# EAGLE library part CAT93C56LI-G (library on-semiconductor-01)
CMOS EEPROM
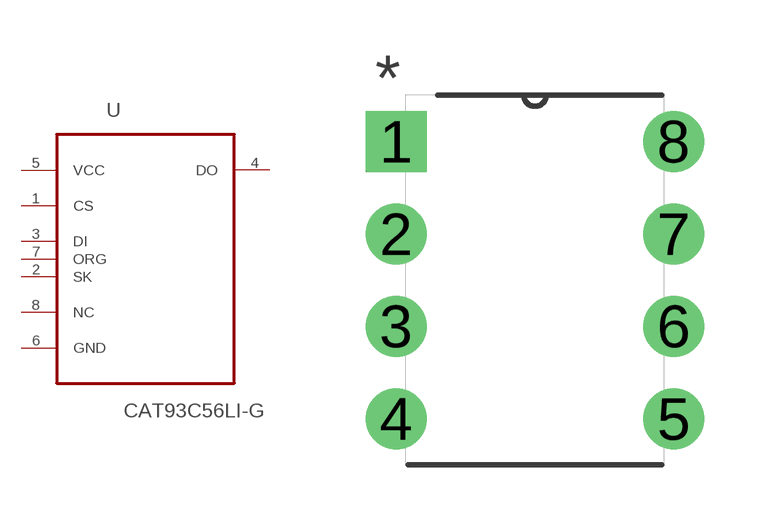
[diagram p18: symbol with the pads of DIP254P762X533-8; footprint DIP254P762X533-8]

Designator prefix U

## CAT93C56LI-G (MPN: CAT93C56LI-G; OC_FARNELL: 1718065; OC_NEWARK: 06R1453; PACKAGE: PDIP; SUPPLIER: ON SEMICONDUCTOR)  [DIP254P762X533-8]
1  CS  in
2  SK  in
3  DI  in
4  DO  out
5  VCC  pwr
6  GND  pas
7  ORG  in
8  NC  nc

## Footprint DIP254P762X533-8 (pad centres in mm)
drill 1.118 square: 1 -7.62,7.62
drill 1.118: 2 -7.62,5.08; 3 -7.62,2.54; 4 -7.62,0; 5 0,0; 6 0,2.54; 7 0,5.08; 8 0,7.62